# EAGLE library part TPS62842DGRR (library TPS62842DGRR)
Switching Voltage Regulators 60-nA IQ, 1.8-V to 6.5-VIN, high-efficiency 750-mA step-down converter 8-HVSSOP -40 to 125 Source: Datasheet <https://www.ti.com/lit/ds/symlink/tps62840.pdf>
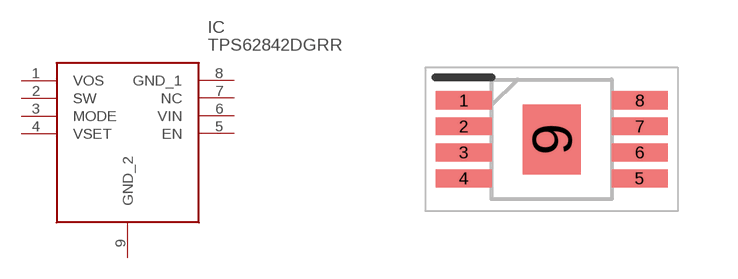
[diagram p0: symbol with the pads of SOP65P490X110-9N; footprint SOP65P490X110-9N]

Designator prefix IC

## TPS62842DGRR (Description: Switching Voltage Regulators 60-nA IQ, 1.8-V to 6.5-VIN, high-efficiency 750-mA step-down converter 8-HVSSOP -40 to 125; Height: 1.1mm; Manufacturer_Name: Texas Instruments; Manufacturer_Part_Number: TPS62842DGRR; Mouser_Part_Number: 595-TPS62842DGRR; Mouser_Price-Stock: https://www.mouser.co.uk/ProductDetail/Texas-Instruments/TPS62842DGRR?qs=xZ%2FP%252Ba9zWqbpi7pDQDs52A%3D%3D)  [SOP65P490X110-9N]
1  VOS
2  SW
3  MODE
4  VSET
5  EN
6  VIN
7  NC  nc
8  GND_1
9  GND_2

## Footprint SOP65P490X110-9N (pad centres in mm)
HVSSOP-8
smd 1.4 x 0.45: 1 -2.2,0.975; 2 -2.2,0.325; 3 -2.2,-0.325; 4 -2.2,-0.975; 5 2.2,-0.975; 6 2.2,-0.325; 7 2.2,0.325; 8 2.2,0.975
smd 1.45 x 1.75: 9 0,0